# Altium schematic symbol library Schlib1.SchLib: 8 symbols
Pins are listed as number, name and electrical type; pins without a type are passive.

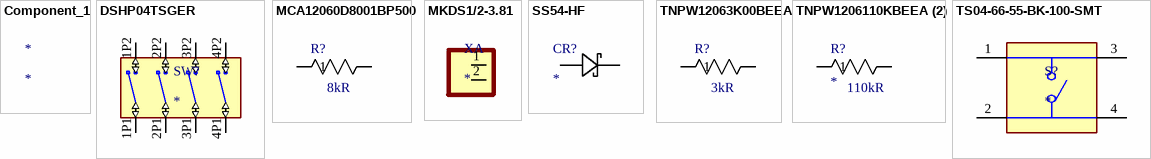
[diagram p0: symbols Component_1 to TS04-66-55-BK-100-SMT]

## Component_1
designator *

## DSHP04TSGER
designator SW?
Switch DIP ON OFF SPST 4 Recessed Slide 0.025A 24VDC Gull Wing 1000Cycles 1.27mm SMD T/R; MP: DSHP04TSGER; MF: KINGTEK INDUSTRIAL; Package: None; Check_prices: https://www.snapeda.com/parts/DSHP04TSGER/GTE/view-part/?ref=eda; SnapEDA_Link: https://www.snapeda.com/parts/DSHP04TSGER/GTE/view-part/?ref=snap; Availability: In Stock; Price: None; Value: *
footprint DSHP04TSGER
pins: 1P1 (io), 1P2 (io), 2P1 (io), 2P2 (io), 3P1 (io), 3P2 (io), 4P1 (io), 4P2 (io)

## MCA12060D8001BP500
designator R?  Resistance: 8kR  (hidden comment: *)
Fixed Resistor, Thin Film, 0.25W, 8000ohm, 200V, 0.1% +/-Tol, 25ppm/Cel, Surface Mount, 1206; Manufacturer: Vishay BCcomponents; Manufacturer Part Number: MCA12060D8001BP500; Rated Power Dissipation (P): 250mW; Rated Temperature: 70°C; Temperature Coefficient: 25ppm/°C; Supplier 1: Digikey; RoHS: Yes; Category: Chip SMD Resistors; Pricing 1: 5000=0.16835 (USD); Mount: Surface Mount; Number of Pins: 2; Package Shape: Rectangular; Size Code: 1206; Terminal Finish: Nickel; Min Operating Temperature: -55°C; Max Operating Temperature: 125°C; Tolerance: 0.1%; JESD-609 Code: e3; Resistor Type: FIXED RESISTOR; Packaging: Tape and Reel; Technology: THIN FILM; Termination: Wraparound; Working Voltage: 200V; Reach SVHC Compliant: Yes; RoHS Compliant: Yes; ComponentLink1URL: https://datasheet.ciiva.com:443/pdfs/VipMasterIC/IC/VISH/VISH-S-A0002473671/VISH-S-A0002473671-1.pdf?src-supplier=IHS+Markit; ComponentLink1Description: https://datasheet.ciiva.com:443/pdfs/VipMasterIC/IC/VISH/VISH-S-A0002473671/VISH-S-A0002473671-1.pdf?src-supplier=IHS+Markit; ComponentLink2URL: https://datasheet.ciiva.com/2606/mc-pre-2606068.pdf?src-supplier=Digikey; ComponentLink2Description: https://datasheet.ciiva.com/2606/mc-pre-2606068.pdf?src-supplier=Digikey
footprint RESC3116X65N
pins: 1, 2

## MKDS1/2-3.81
designator XA
2 Position Wire to Board Terminal Block Horizontal with Board 0.150 _3.81mm_ Through Hole; MF: Phoenix Contact; MP: MKDS 1/ 2-3.81; Package: None; Price: None; SnapEDA_Link: https://www.snapeda.com/parts/MKDS%201/%202-3.81/Phoenix%20Contact/view-part/114562/?ref=snap; Availability: Unavailable; Value: *
footprint PHOENIX_MKDS1/2-3.81 - duplicate
pins: 1, 2

## SS54-HF
designator CR?
No Description Available; Mfr_Name: Comchip; Type: Diodes - Rectifiers, Single
footprint SDO_DO-214AC_CIP
pins: 1 CATHODE, 2 ANODE

## TNPW12063K00BEEA
designator R?  Resistance: 3kR  (hidden comment: *)
Fixed Resistor, Thin Film, 0.25W, 3000ohm, 200V, 0.1% +/-Tol, 25ppm/Cel, Surface Mount, 1206; Manufacturer: Vishay Dale; Manufacturer Part Number: TNPW12063K00BEEA; Rated Power Dissipation (P): 250mW; Rated Temperature: 70°C; Temperature Coefficient: 25ppm/°C; Package Height: 0.55mm; Package Length: 3.2mm; Package Width: 1.6mm; Reference Standard: AEC-Q200; Supplier 1: Mouser; RoHS: Yes; Category: Chip SMD Resistors; Stock 1: 8904; Pricing 1: 1=0.64, 10=0.458, 50=0.351, 100=0.311, 1000=0.202, 10000=0.186 (USD); Mount: Surface Mount; Number of Pins: 2; Size Code: 1206; Terminal Finish: Nickel; Min Operating Temperature: -55°C; Max Operating Temperature: 125°C; Tolerance: 0.1%; Resistor Type: FIXED RESISTOR; Construction: Chip; Package Style: SMTMeter; Packaging: Tape and Reel; Technology: THIN FILM; Termination: Wraparound; Working Voltage: 200V; Reach SVHC Compliant: Yes; RoHS Compliant: Yes; ComponentLink1URL: https://datasheet.ciiva.com:443/pdfs/VipMasterIC/IC/VISH/VISH-S-A0002290253/VISH-S-A0002290253-1.pdf?src-supplier=IHS+Markit; ComponentLink1Description: https://datasheet.ciiva.com:443/pdfs/VipMasterIC/IC/VISH/VISH-S-A0002290253/VISH-S-A0002290253-1.pdf?src-supplier=IHS+Markit; ComponentLink2URL: http://www.mouser.com/ds/2/427/tnpw_e3-64594.pdf?src-supplier=Mouser; ComponentLink2Description: http://www.mouser.com/ds/2/427/tnpw_e3-64594.pdf?src-supplier=Mouser; ComponentLink3URL: http://www.vishay.com/docs/28758/tnpw_e3.pdf?src-supplier=Avnet; ComponentLink3Description: http://www.vishay.com/docs/28758/tnpw_e3.pdf?src-supplier=Avnet; ComponentLink4URL: http://www.vishay.com/docs/28758/tnpw_e3.pdf?src-supplier=Digikey; ComponentLink4Description: http://www.vishay.com/docs/28758/tnpw_e3.pdf?src-supplier=Digikey
footprint RES_TNPW1206_VIS - duplicate
pins: 1, 2

## TNPW1206110KBEEA (2)
designator R?  Resistance: 110kR
Fixed Resistor, Thin Film, 0.25W, 110000ohm, 200V, 0.1% +/-Tol, 25ppm/Cel, Surface Mount, 1206; Manufacturer: Vishay Dale; Manufacturer Part Number: TNPW1206110KBEEA; Rated Power Dissipation (P): 250mW; Rated Temperature: 70°C; Temperature Coefficient: 25ppm/°C; Package Height: 0.55mm; Package Length: 3.2mm; Package Width: 1.6mm; Reference Standard: AEC-Q200; Supplier 1: Mouser; RoHS: Yes; Category: Chip SMD Resistors; Stock 1: 19950; Pricing 1: 1=0.64, 10=0.458, 50=0.351, 100=0.311, 1000=0.202, 10000=0.191 (USD); Mount: Surface Mount; Number of Pins: 2; Size Code: 1206; Terminal Finish: Nickel; Min Operating Temperature: -55°C; Max Operating Temperature: 125°C; Tolerance: 0.1%; Resistor Type: FIXED RESISTOR; Construction: Chip; Package Style: SMTMeter; Packaging: Tape and Reel; Technology: THIN FILM; Termination: Wraparound; Working Voltage: 200V; Reach SVHC Compliant: Yes; RoHS Compliant: Yes; ComponentLink1URL: https://datasheet.ciiva.com:443/pdfs/VipMasterIC/IC/VISH/VISH-S-A0002290253/VISH-S-A0002290253-1.pdf?src-supplier=IHS+Markit; ComponentLink1Description: https://datasheet.ciiva.com:443/pdfs/VipMasterIC/IC/VISH/VISH-S-A0002290253/VISH-S-A0002290253-1.pdf?src-supplier=IHS+Markit; ComponentLink2URL: https://datasheet.ciiva.com/2607/tnpw-e3-2607341.pdf?src-supplier=Digikey; ComponentLink2Description: https://datasheet.ciiva.com/2607/tnpw-e3-2607341.pdf?src-supplier=Digikey; ComponentLink3URL: https://datasheet.ciiva.com/8978/tnpw-e3-8978104.pdf?src-supplier=Avnet; ComponentLink3Description: https://datasheet.ciiva.com/8978/tnpw-e3-8978104.pdf?src-supplier=Avnet
footprint RES_TNPW1206_VIS
pins: 1, 2

## TS04-66-55-BK-100-SMT
designator S?
6 x 6 mm, 4.3~9.5 mm Actuator Height, 100~260 gf, Surface Mount, SPST, Tactile Switch; MP: TS04-66-55-BK-100-SMT; MF: CUI Devices; Value: *; Package: None; Purchase-URL: https://pricing.snapeda.com/search/part/TS04-66-55-BK-100-SMT/?ref=eda; Price: None; Check_prices: https://www.snapeda.com/parts/TS04-66-55-BK-100-SMT/CUI+Devices/view-part/?ref=eda; CUI_purchase_URL: https://www.cuidevices.com/product/switches/tactile-switches/ts04-series?utm_source=snapeda.com&utm_medium=referral&utm_campaign=snapedaBOM; Availability: In Stock; SnapEDA_Link: https://www.snapeda.com/parts/TS04-66-55-BK-100-SMT/CUI+Devices/view-part/?ref=snap
footprint SW_TS04-66-55-BK-100-SMT
pins: 1, 2, 3, 4